# Altium schematic symbol library Si473x-D60-GU.SchLib: 1 symbol
Pins are listed as number, name and electrical type; pins without a type are passive.

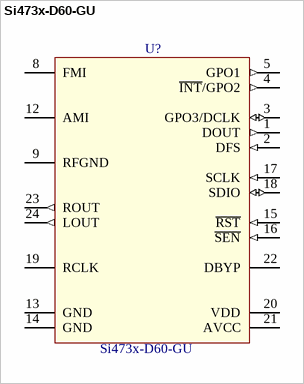
[diagram p0: symbol Si473x-D60-GU]

## Si473x-D60-GU
designator U?
BROADCAST AM/FM/SW/LW RADIO RECEIVER; Value: Si473x-D60-GU
pins: 1 DOUT (out) "Digital output data for digital output mode.", 2 DFS (in) "Digital frame synchronization input for digital output mode", 3 GPO3/DCLK (io) "General purpose output, crystal oscillator, or digital bit synchronous clock input  in digital output mode.", 4 ~{INT}/GPO2 (out), 5 GPO1 (out), 8 FMI "FM RF inputs. FMI should be connected to the antenna trace.", 9 RFGND (power) "RF ground. Connect to ground plane on PCB.", 12 AMI "AM/SW/LW RF input.", 13 GND (power) "Ground. Connect to ground plane on PCB.", 14 GND (power) "Ground. Connect to ground plane on PCB.", 15 ~{RST} (in) "Device reset input", 16 ~{SEN} (in) "Serial enable input", 17 SCLK (in), 18 SDIO (io), 19 RCLK "External reference oscillator input.", 20 VDD (power) "Digital and I/O supply voltage.", 21 AVCC (power) "Analog supply voltage. May be connected directly to battery.", 22 DBYP "Bypass capacitor", 23 ROUT (out) "Right audio line output in analog output mode.", 24 LOUT (out) "Left audio line output in analog output mode."